# Altium footprint library Motherboard.PcbLib: 5 footprints
Each footprint in its own frame and in the unit in brackets; x right, y up, seen from the top. Pads: shape width x height; smd on the part's side, far side on the other; paste and mask are expansions set on the pad; w line width, h text height; cw(c..) or ccw(c..) is an arc to the next point about the centre after c.
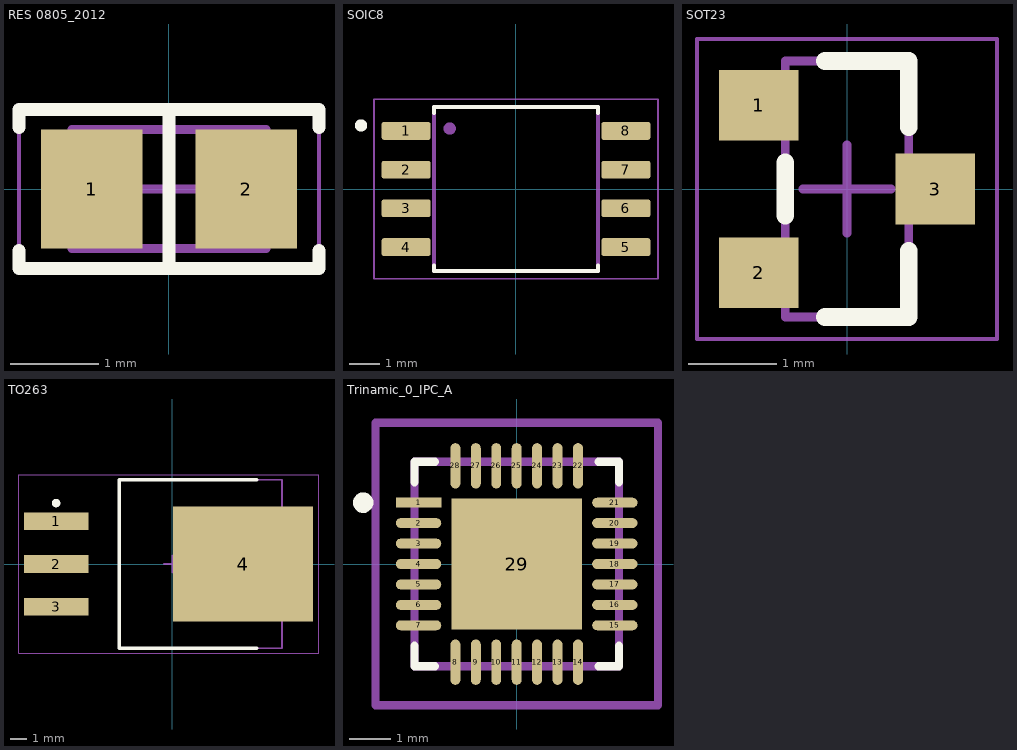
[diagram p0: the footprints below, top view; thin cyan lines are the x and y axes]

## RES 0805_2012 [mm] "Chip Resistor, 2-Leads, Body 2.00x1.25mm, IPC Medium Density"
height 0.7
pads (2):
  rect 1.15x1.35 smd: 1(-0.875,0) 2(0.875,0)
Top Overlay:
  lines w0.15: -1.7,-0.7 -1.7,-0.9 1.7,-0.9 1.7,-0.7 ; -1.7,0.7 -1.7,0.9 1.7,0.9 1.7,0.7 ; 0,-0.9 0,0.9
Mechanical 13:
  lines w0.1: -1.1,-0.675 -1.1,0.675 1.1,0.675 1.1,-0.675 -1.1,-0.675
Mechanical 15:
  lines w0.05: -1.7,-0.95 -1.7,0.95 1.7,0.95 1.7,-0.95 -1.7,-0.95
  lines w0.1: -0.5,0 0.5,0 ; 0,-0.5 0,0.5
3D body "0805 resistor.STEP": height 0.6, standoff 0, extent -1,-0.625 1,0.625

## SOIC8 [mm]
pads (8):
  rrect25% 1.61x0.58 smd: 1(-3.605,1.905) 2(-3.605,0.635) 3(-3.605,-0.635) 4(-3.605,-1.905) 5(3.605,-1.905) 6(3.605,-0.635) 7(3.605,0.635) 8(3.605,1.905)
Top Overlay:
  circle w0.2: c-5.085,2.085 r0.1
  lines w0.127: -2.69,-2.51 -2.69,-2.69 2.69,-2.69 2.69,-2.51 ; -2.69,2.5 -2.69,2.69 2.69,2.69 2.69,2.5
Mechanical 13:
  circle w0.2: c-2.175,1.985 r0.1
  lines w0.127: -2.69,-2.69 -2.69,2.69 2.69,2.69 2.69,-2.69 -2.69,-2.69
Mechanical 15:
  lines w0.05: -4.66,-2.94 -4.66,2.94 4.66,2.94 4.66,-2.94 -4.66,-2.94

## SOT23 [mm] "SOT23, 3-Leads, Body 2.92x2.37mm, Pitch 0.95mm, IPC Medium Density"
height 1.12
pads (3):
  rect 0.9x0.8 smd: 1(-1,0.95) 2(-1,-0.95) 3(1,0)
Top Overlay:
  lines w0.2: -0.7,-0.3 -0.7,0.3 ; -0.25,-1.45 0.7,-1.45 0.7,-0.7 ; -0.25,1.45 0.7,1.45 0.7,0.7
Mechanical 13:
  lines w0.1: -0.7,-1.45 0.7,-1.45 0.7,1.45 -0.7,1.45 -0.7,-1.45
Mechanical 15:
  lines w0.05: -1.7,-1.7 1.7,-1.7 1.7,1.7 -1.7,1.7 -1.7,-1.7
  lines w0.1: -0.5,0 0.5,0 ; 0,-0.5 0,0.5
3D body "sot-23-3-nxp.STEP": height 1.5, standoff 0, extent -1.16,-1.45 1.161,1.45

## TO263 [mm] "D2-PAK, 4-Pads, Body 7.93x8.70mm (max), IPC Medium Density"
height 4.83
pads (4):
  rect 3.82x1.05 smd: 1(-6.9,2.54) 2(-6.9,0) 3(-6.9,-2.54)
  rect 8.3x6.8 smd: 4(4.2,0)
Top Overlay:
  circle w0.25: c-6.9,3.615 r0.125
  lines w0.2: 5,-5 -3.15,-5 -3.15,5 5,5
Mechanical 13:
  lines w0.1: -3.15,-5 -3.15,5 6.5,5 6.5,-5 -3.15,-5
Mechanical 15:
  lines w0.05: -9.1,-5.3 -9.1,5.3 8.7,5.3 8.7,-5.3 -9.1,-5.3
  lines w0.1: -0.5,0 0.5,0 ; 0,-0.5 0,0.5
3D body "TI TO-263-3 KTT.step": height 4.54, standoff 0, extent -7.822,-5.08 7.418,5.08

## Trinamic_0_IPC_A [mm]
pads (29):
  rect 1.111x0.242 smd paste+0 mask+0: 1(-2.401,1.5)
  rrect100% 1.111x0.242 smd paste+0 mask+0: 2(-2.401,1) 3(-2.401,0.5) 4(-2.401,0) 5(-2.401,-0.5) 6(-2.401,-1) 7(-2.401,-1.5) 15(2.401,-1.5) 16(2.401,-1) 17(2.401,-0.5) 18(2.401,0) 19(2.401,0.5) 20(2.401,1) 21(2.401,1.5)
  rrect100% 0.242x1.111 smd paste+0 mask+0: 8(-1.5,-2.401) 9(-1,-2.401) 10(-0.5,-2.401) 11(0,-2.401) 12(0.5,-2.401) 13(1,-2.401) 14(1.5,-2.401) 22(1.5,2.401) 23(1,2.401) 24(0.5,2.401) 25(0,2.401) 26(-0.5,2.401) 27(-1,2.401) 28(-1.5,2.401)
  rect 3.2x3.2 smd paste-1000 mask+0: 29(0,0)
Top Overlay:
  circle w0.25: c-3.756,1.5 r0.125
  lines w0.2: -2.5,-2 -2.5,-2.5 -2,-2.5 ; -2.5,2 -2.5,2.5 -2,2.5 ; 2,-2.5 2.5,-2.5 2.5,-2 ; 2,2.5 2.5,2.5 2.5,2
Top Paste:
  rectangle: -1.012,-1.012 1.012,1.012
Mechanical 10:
  lines w0.2: -3.456,-3.456 3.456,-3.456 3.456,3.456 -3.456,3.456 -3.456,-3.456
  text ".Designator" at 0,0 h1
Mechanical 12:
  lines w0.2: -2.5,-2.5 2.5,-2.5 2.5,2.5 -2.5,2.5 -2.5,-2.5
Mechanical 15:
  lines w0.1: -0.5,0 0.5,0 ; 0,-0.5 0,0.5
  lines w0.2: -3.456,-3.456 3.456,-3.456 3.456,3.456 -3.456,3.456 -3.456,-3.456
3D body "IC_Trinamic_TMC2208-LA_eec.STEP": height 0.25, standoff 0, extent -3.456,-3.456 3.456,3.456